# EAGLE library part BOURNS_PEC12R (library components)
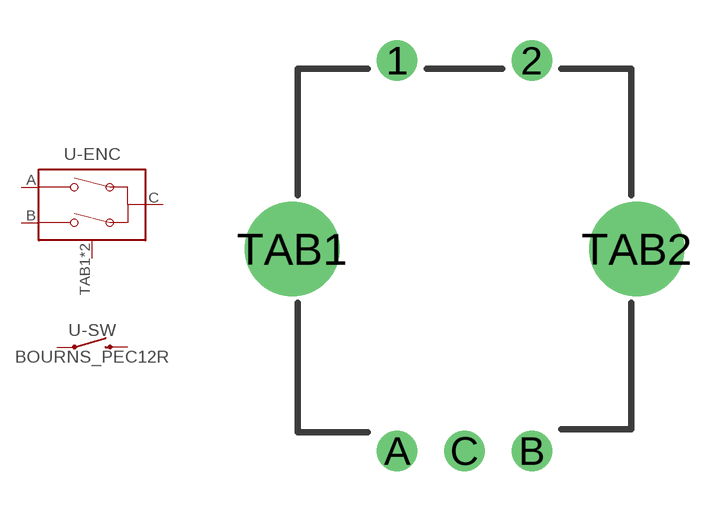
[diagram p2: symbol with the pads of BOURNS_PEC12R-4XXXF-SXXXX; footprint BOURNS_PEC12R-4XXXF-SXXXX]

Designator prefix -; gates -ENC=ENCODER_QUAD-COM -SW=SPST

## BOURNS_PEC12R  [BOURNS_PEC12R-4XXXF-SXXXX]
1  -SW:1  pas
2  -SW:2  pas
A  -ENC:A
B  -ENC:B
C  -ENC:C
TAB1  -ENC:GND
TAB2  -ENC:GND

## Footprint BOURNS_PEC12R-4XXXF-SXXXX (pad centres in mm)
Bourns PEC12R Incremental Encoder Horizontal mount, no bushing, push momentary switch
drill 1: 1 -2.5,7; 2 2.5,7; A -2.5,-7.5; B 2.5,-7.5; C 0,-7.5
drill 2.5: TAB1 -6.4,0; TAB2 6.4,0